# Altium footprint library LGA.PcbLib: 2 footprints
Each footprint in its own frame and in the unit in brackets; x right, y up, seen from the top. Pads: shape width x height; smd on the part's side, far side on the other; paste and mask are expansions set on the pad; w line width, h text height; cw(c..) or ccw(c..) is an arc to the next point about the centre after c.
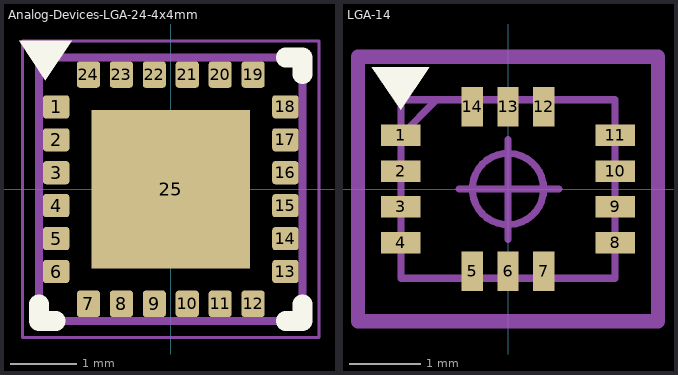
[diagram p0: the footprints below, top view; thin cyan lines are the x and y axes]

## Analog-Devices-LGA-24-4x4mm [mm]
pads (25):
  rrect25% 0.4x0.35 smd: 1(-1.74,1.25) 2(-1.74,0.75) 3(-1.74,0.25) 4(-1.74,-0.25) 5(-1.74,-0.75) 6(-1.74,-1.25) 13(1.74,-1.25) 14(1.74,-0.75) 15(1.74,-0.25) 16(1.74,0.25) 17(1.74,0.75) 18(1.74,1.25)
  rrect25% 0.35x0.4 smd: 7(-1.25,-1.74) 8(-0.75,-1.74) 9(-0.25,-1.74) 10(0.25,-1.74) 11(0.75,-1.74) 12(1.25,-1.74) 19(1.25,1.74) 20(0.75,1.74) 21(0.25,1.74) 22(-0.25,1.74) 23(-0.75,1.74) 24(-1.25,1.74)
  rect 2.4x2.4 smd paste-0.44: 25(0,0)
Top Overlay:
  region: -1.504,2.256 -2.304,2.256 -1.904,1.656
  lines w0.3: -2,-1.745 -2,-2 -1.745,-2 ; 1.745,-2 2,-2 2,-1.745 ; 1.745,2 2,2 2,1.745
Top Assembly:
  lines w0.127: -2,-2 2,-2 2,2 -2,2 -2,-2
Top Component Outline:
  lines w0.05: -2.25,-2.25 -2.25,2.25 2.25,2.25 2.25,-2.25 -2.25,-2.25
Top Component Center:
  circle w0.1: c0,0 r0.5
  lines w0.1: -0.686,0 0.711,0 ; -0.001,-0.706 -0.001,0.691
3D body "step_temp.STEP": height 0.85, standoff 0, extent -2,-2 2,2

## LGA-14 [mm]
pads (14):
  rect 0.55x0.3 smd: 1(-1.5,0.75) 2(-1.5,0.25) 3(-1.5,-0.25) 4(-1.5,-0.75) 8(1.5,-0.75) 9(1.5,-0.25) 10(1.5,0.25) 11(1.5,0.75)
  rect 0.3x0.55 smd: 5(-0.5,-1.15) 6(0,-1.15) 7(0.5,-1.15) 12(0.5,1.15) 13(0,1.15) 14(-0.5,1.15)
Top Overlay:
  region: -1.104,1.706 -1.904,1.706 -1.504,1.106
Top Assembly:
  lines w0.1: -1.5,0.75 -1,1.25 ; -1.5,-1.25 -1.5,1.25 1.5,1.25 1.5,-1.25 -1.5,-1.25
Top Component Outline:
  lines w0.2: -2.1,-1.85 -2.1,1.85 2.1,1.85 2.1,-1.85 -2.1,-1.85
Top Component Center:
  circle w0.1: c0,0 r0.5
  lines w0.1: -0.686,0 0.711,0 ; -0.001,-0.706 -0.001,0.691
3D body "BMI270.stp": height 0.87, standoff 0, extent -1.55,-1.3 1.55,1.3